# Altium integrated library Kondensator_DIP.IntLib: 1521 symbols (part 4 of 5)
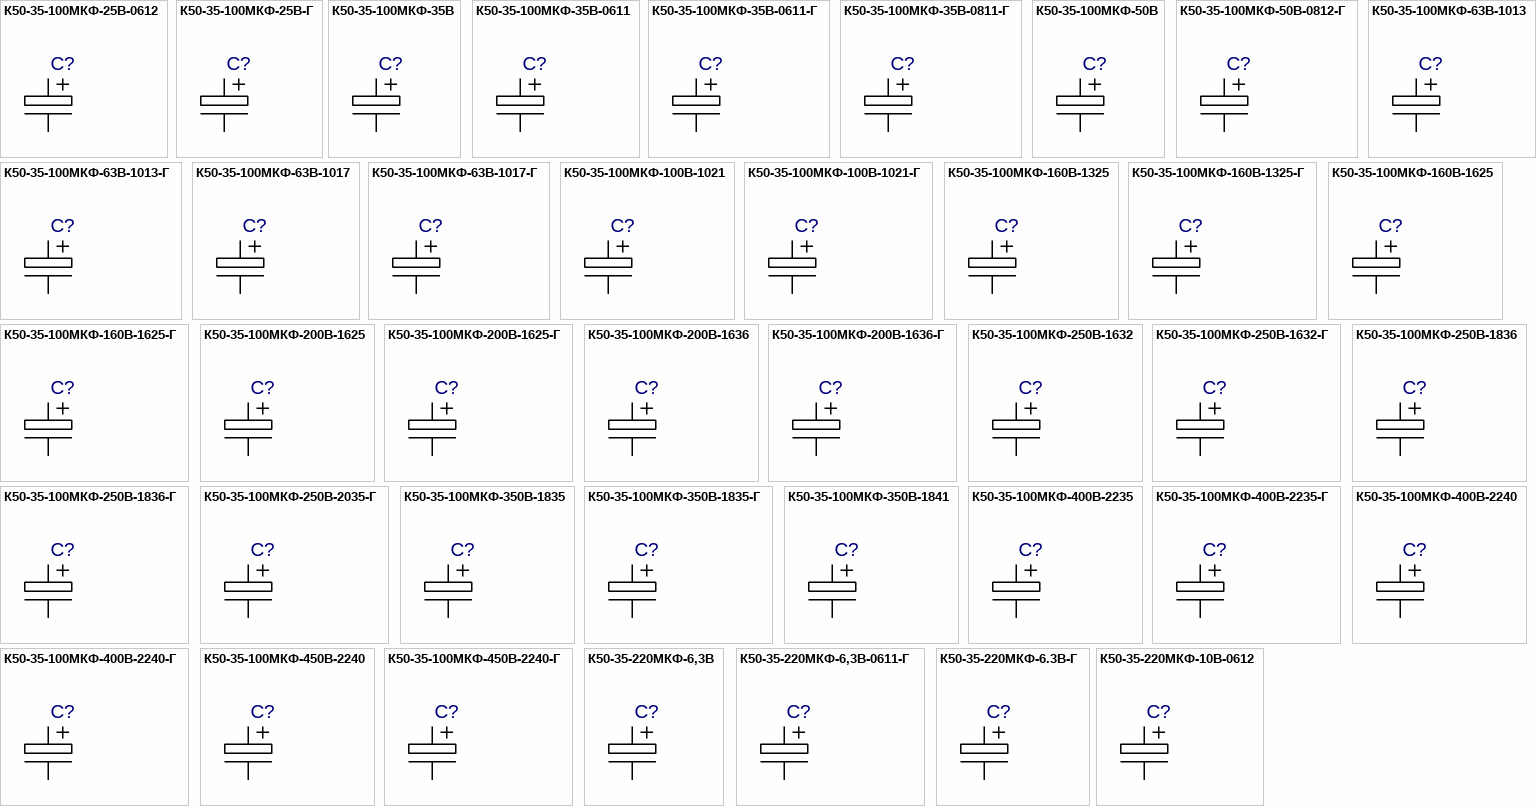
[diagram p41: symbols К50-35-100МКФ-25В-0612 to К50-35-220МКФ-10В-0612]

## К50-35-100МКФ-200В-1625-Г
designator C?  (value not drawn)
Value: *
footprint К50-35-16XX-Г_K5035-1R
footprint К50-35-16XX-Г_K5035-1R1
footprint К50-35-16XX-Г_Primary
pins: 1, 2

## К50-35-100МКФ-200В-1636
designator C?  (value not drawn)
Value: *
footprint К50-35-1625_K5035-1R
footprint К50-35-1625_K5035-1R1
footprint К50-35-1625_Primary
pins: 1, 2

## К50-35-100МКФ-200В-1636-Г
designator C?  (value not drawn)
Value: *
footprint К50-35-16XX-Г_K5035-1R
footprint К50-35-16XX-Г_K5035-1R1
footprint К50-35-16XX-Г_Primary
pins: 1, 2

## К50-35-100МКФ-250В-1632
designator C?  (value not drawn)
Value: *
footprint К50-35-1625_K5035-1R
footprint К50-35-1625_K5035-1R1
footprint К50-35-1625_Primary
pins: 1, 2

## К50-35-100МКФ-250В-1632-Г
designator C?  (value not drawn)
Value: *
footprint К50-35-16XX-Г_K5035-1R
footprint К50-35-16XX-Г_K5035-1R1
footprint К50-35-16XX-Г_Primary
pins: 1, 2

## К50-35-100МКФ-250В-1836
designator C?  (value not drawn)
Value: *
footprint К50-35-1835_K5035-1R
footprint К50-35-1835_K5035-1R1
footprint К50-35-1835_Primary
pins: 1, 2

## К50-35-100МКФ-250В-1836-Г
designator C?  (value not drawn)
Value: *
footprint К50-35-18XX-Г_K5035-1R
footprint К50-35-18XX-Г_K5035-1R1
footprint К50-35-18XX-Г_Primary
pins: 1, 2

## К50-35-100МКФ-250В-2035-Г
designator C?  (value not drawn)
Value: *
footprint К50-35-20XX-Г_K5035-1R
footprint К50-35-20XX-Г_K5035-1R1
footprint К50-35-20XX-Г_Primary
pins: 1, 2

## К50-35-100МКФ-350В-1835
designator C?  (value not drawn)
Value: *
footprint К50-35-1835_K5035-1R
footprint К50-35-1835_K5035-1R1
footprint К50-35-1835_Primary
pins: 1, 2

## К50-35-100МКФ-350В-1835-Г
designator C?  (value not drawn)
Value: *
footprint К50-35-18XX-Г_K5035-1R
footprint К50-35-18XX-Г_K5035-1R1
footprint К50-35-18XX-Г_Primary
pins: 1, 2

## К50-35-100МКФ-350В-1841
designator C?  (value not drawn)
Value: *
footprint К50-35-1835_K5035-1R
footprint К50-35-1835_K5035-1R1
footprint К50-35-1835_Primary
pins: 1, 2

## К50-35-100МКФ-400В-2235
designator C?  (value not drawn)
Value: *
footprint К50-35-2240_K5035-1R
footprint К50-35-2240_K5035-1R1
footprint К50-35-2240_Primary
pins: 1, 2

## К50-35-100МКФ-400В-2235-Г
designator C?  (value not drawn)
Value: *
footprint К50-35-22XX-Г_K5035-1R
footprint К50-35-22XX-Г_K5035-1R1
footprint К50-35-22XX-Г_Primary
pins: 1, 2

## К50-35-100МКФ-400В-2240
designator C?  (value not drawn)
Value: *
footprint К50-35-2240_K5035-1R
footprint К50-35-2240_K5035-1R1
footprint К50-35-2240_Primary
pins: 1, 2

## К50-35-100МКФ-400В-2240-Г
designator C?  (value not drawn)
Value: *
footprint К50-35-22XX-Г_K5035-1R
footprint К50-35-22XX-Г_K5035-1R1
footprint К50-35-22XX-Г_Primary
pins: 1, 2

## К50-35-100МКФ-450В-2240
designator C?  (value not drawn)
Value: *
footprint К50-35-2240_K5035-1R
footprint К50-35-2240_K5035-1R1
footprint К50-35-2240_Primary
pins: 1, 2

## К50-35-100МКФ-450В-2240-Г
designator C?  (value not drawn)
Value: *
footprint К50-35-22XX-Г_K5035-1R
footprint К50-35-22XX-Г_K5035-1R1
footprint К50-35-22XX-Г_Primary
pins: 1, 2

## К50-35-220МКФ-6,3В
designator C?  (value not drawn)
Value: *
footprint К50-35-0511_K5035-1R
footprint К50-35-0511_K5035-1R1
footprint К50-35-0511_Primary
pins: 1, 2

## К50-35-220МКФ-6,3В-0611-Г
designator C?  (value not drawn)
Value: *
footprint К50-35-0611-Г_K5035-1R
footprint К50-35-0611-Г_K5035-1R1
footprint К50-35-0611-Г_Primary
pins: 1, 2

## К50-35-220МКФ-6.3В-Г
designator C?  (value not drawn)
Value: *
footprint К50-35-0511-Г_K5035-1R
footprint К50-35-0511-Г_K5035-1R1
footprint К50-35-0511-Г_Primary
pins: 1, 2

## К50-35-220МКФ-10В-0612
designator C?  (value not drawn)
Value: *
footprint К50-35-0611_K5035-1R
footprint К50-35-0611_K5035-1R1
footprint К50-35-0611_Primary
pins: 1, 2

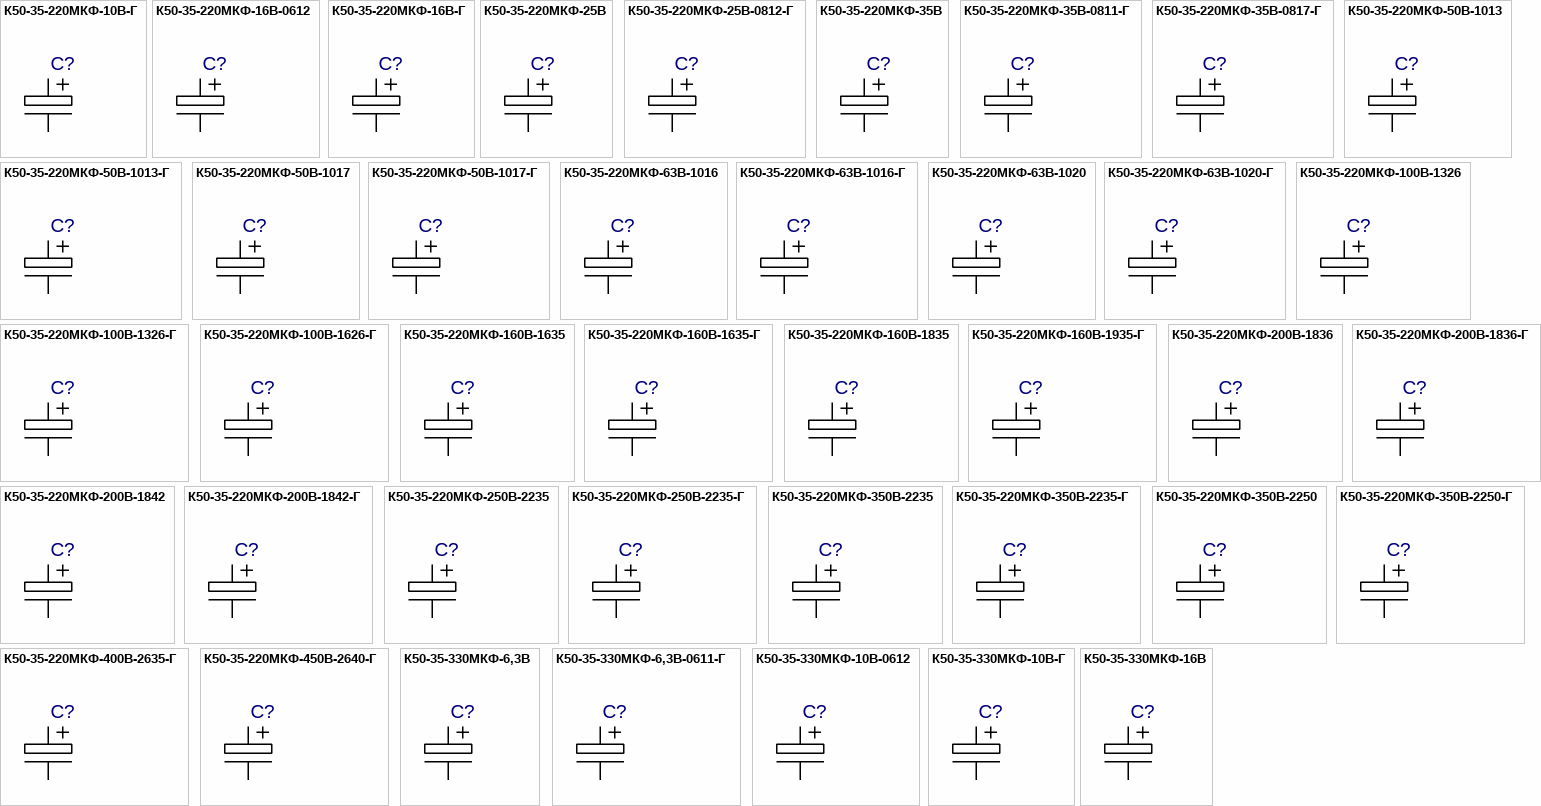
[diagram p30: symbols К50-35-220МКФ-10В-Г to К50-35-330МКФ-16В]

## К50-35-220МКФ-10В-Г
designator C?  (value not drawn)
Value: *
footprint К50-35-0611-Г_K5035-1R
footprint К50-35-0611-Г_K5035-1R1
footprint К50-35-0611-Г_Primary
pins: 1, 2

## К50-35-220МКФ-16В-0612
designator C?  (value not drawn)
Value: *
footprint К50-35-0611_K5035-1R
footprint К50-35-0611_K5035-1R1
footprint К50-35-0611_Primary
pins: 1, 2

## К50-35-220МКФ-16В-Г
designator C?  (value not drawn)
Value: *
footprint К50-35-0611-Г_K5035-1R
footprint К50-35-0611-Г_K5035-1R1
footprint К50-35-0611-Г_Primary
pins: 1, 2

## К50-35-220МКФ-25В
designator C?  (value not drawn)
Value: *
footprint R50-35-08XX_K5035-2R
footprint R50-35-08XX_K5035-2R1
footprint R50-35-08XX_Primary
pins: 1, 2

## К50-35-220МКФ-25В-0812-Г
designator C?  (value not drawn)
Value: *
footprint К50-35-08XX-Г_K5035-2R
footprint К50-35-08XX-Г_K5035-2R1
footprint К50-35-08XX-Г_Primary
pins: 1, 2

## К50-35-220МКФ-35В
designator C?  (value not drawn)
Value: *
footprint R50-35-08XX_K5035-2R
footprint R50-35-08XX_K5035-2R1
footprint R50-35-08XX_Primary
pins: 1, 2

## К50-35-220МКФ-35В-0811-Г
designator C?  (value not drawn)
Value: *
footprint К50-35-08XX-Г_K5035-2R
footprint К50-35-08XX-Г_K5035-2R1
footprint К50-35-08XX-Г_Primary
pins: 1, 2

## К50-35-220МКФ-35В-0817-Г
designator C?  (value not drawn)
Value: *
footprint К50-35-08XX-Г_K5035-2R
footprint К50-35-08XX-Г_K5035-2R1
footprint К50-35-08XX-Г_Primary
pins: 1, 2

## К50-35-220МКФ-50В-1013
designator C?  (value not drawn)
Value: *
footprint К50-35-1020_K5035-1R
footprint К50-35-1020_K5035-1R1
footprint К50-35-1020_Primary
pins: 1, 2

## К50-35-220МКФ-50В-1013-Г
designator C?  (value not drawn)
Value: *
footprint К50-35-1020-Г_K5035-1R
footprint К50-35-1020-Г_K5035-1R1
footprint К50-35-1020-Г_Primary
pins: 1, 2

## К50-35-220МКФ-50В-1017
designator C?  (value not drawn)
Value: *
footprint К50-35-1020_K5035-1R
footprint К50-35-1020_K5035-1R1
footprint К50-35-1020_Primary
pins: 1, 2

## К50-35-220МКФ-50В-1017-Г
designator C?  (value not drawn)
Value: *
footprint К50-35-1020-Г_K5035-1R
footprint К50-35-1020-Г_K5035-1R1
footprint К50-35-1020-Г_Primary
pins: 1, 2

## К50-35-220МКФ-63В-1016
designator C?  (value not drawn)
Value: *
footprint К50-35-1020_K5035-1R
footprint К50-35-1020_K5035-1R1
footprint К50-35-1020_Primary
pins: 1, 2

## К50-35-220МКФ-63В-1016-Г
designator C?  (value not drawn)
Value: *
footprint К50-35-1020-Г_K5035-1R
footprint К50-35-1020-Г_K5035-1R1
footprint К50-35-1020-Г_Primary
pins: 1, 2

## К50-35-220МКФ-63В-1020
designator C?  (value not drawn)
Value: *
footprint К50-35-1020_K5035-1R
footprint К50-35-1020_K5035-1R1
footprint К50-35-1020_Primary
pins: 1, 2

## К50-35-220МКФ-63В-1020-Г
designator C?  (value not drawn)
Value: *
footprint К50-35-1020-Г_K5035-1R
footprint К50-35-1020-Г_K5035-1R1
footprint К50-35-1020-Г_Primary
pins: 1, 2

## К50-35-220МКФ-100В-1326
designator C?  (value not drawn)
Value: *
footprint К50-35-1320_K5035-1R
footprint К50-35-1320_K5035-1R1
footprint К50-35-1320_Primary
pins: 1, 2

## К50-35-220МКФ-100В-1326-Г
designator C?  (value not drawn)
Value: *
footprint К50-35-13XX-Г_K5035-1R
footprint К50-35-13XX-Г_K5035-1R1
footprint К50-35-13XX-Г_Primary
pins: 1, 2

## К50-35-220МКФ-100В-1626-Г
designator C?  (value not drawn)
Value: *
footprint К50-35-16XX-Г_K5035-1R
footprint К50-35-16XX-Г_K5035-1R1
footprint К50-35-16XX-Г_Primary
pins: 1, 2

## К50-35-220МКФ-160В-1635
designator C?  (value not drawn)
Value: *
footprint К50-35-1625_K5035-1R
footprint К50-35-1625_K5035-1R1
footprint К50-35-1625_Primary
pins: 1, 2

## К50-35-220МКФ-160В-1635-Г
designator C?  (value not drawn)
Value: *
footprint К50-35-16XX-Г_K5035-1R
footprint К50-35-16XX-Г_K5035-1R1
footprint К50-35-16XX-Г_Primary
pins: 1, 2

## К50-35-220МКФ-160В-1835
designator C?  (value not drawn)
Value: *
footprint К50-35-1835_K5035-1R
footprint К50-35-1835_K5035-1R1
footprint К50-35-1835_Primary
pins: 1, 2

## К50-35-220МКФ-160В-1935-Г
designator C?  (value not drawn)
Value: *
footprint К50-35-18XX-Г_K5035-1R
footprint К50-35-18XX-Г_K5035-1R1
footprint К50-35-18XX-Г_Primary
pins: 1, 2

## К50-35-220МКФ-200В-1836
designator C?  (value not drawn)
Value: *
footprint К50-35-1835_K5035-1R
footprint К50-35-1835_K5035-1R1
footprint К50-35-1835_Primary
pins: 1, 2

## К50-35-220МКФ-200В-1836-Г
designator C?  (value not drawn)
Value: *
footprint К50-35-18XX-Г_K5035-1R
footprint К50-35-18XX-Г_K5035-1R1
footprint К50-35-18XX-Г_Primary
pins: 1, 2

## К50-35-220МКФ-200В-1842
designator C?  (value not drawn)
Value: *
footprint К50-35-1835_K5035-1R
footprint К50-35-1835_K5035-1R1
footprint К50-35-1835_Primary
pins: 1, 2

## К50-35-220МКФ-200В-1842-Г
designator C?  (value not drawn)
Value: *
footprint К50-35-18XX-Г_K5035-1R
footprint К50-35-18XX-Г_K5035-1R1
footprint К50-35-18XX-Г_Primary
pins: 1, 2

## К50-35-220МКФ-250В-2235
designator C?  (value not drawn)
Value: *
footprint К50-35-2240_K5035-1R
footprint К50-35-2240_K5035-1R1
footprint К50-35-2240_Primary
pins: 1, 2

## К50-35-220МКФ-250В-2235-Г
designator C?  (value not drawn)
Value: *
footprint К50-35-22XX-Г_K5035-1R
footprint К50-35-22XX-Г_K5035-1R1
footprint К50-35-22XX-Г_Primary
pins: 1, 2

## К50-35-220МКФ-350В-2235
designator C?  (value not drawn)
Value: *
footprint К50-35-2240_K5035-1R
footprint К50-35-2240_K5035-1R1
footprint К50-35-2240_Primary
pins: 1, 2

## К50-35-220МКФ-350В-2235-Г
designator C?  (value not drawn)
Value: *
footprint К50-35-22XX-Г_K5035-1R
footprint К50-35-22XX-Г_K5035-1R1
footprint К50-35-22XX-Г_Primary
pins: 1, 2

## К50-35-220МКФ-350В-2250
designator C?  (value not drawn)
Value: *
footprint К50-35-2240_K5035-1R
footprint К50-35-2240_K5035-1R1
footprint К50-35-2240_Primary
pins: 1, 2

## К50-35-220МКФ-350В-2250-Г
designator C?  (value not drawn)
Value: *
footprint К50-35-22XX-Г_K5035-1R
footprint К50-35-22XX-Г_K5035-1R1
footprint К50-35-22XX-Г_Primary
pins: 1, 2

## К50-35-220МКФ-400В-2635-Г
designator C?  (value not drawn)
Value: *
footprint К50-35-26XX-Г_K5035-1R
footprint К50-35-26XX-Г_K5035-1R1
footprint К50-35-26XX-Г_Primary
pins: 1, 2

## К50-35-220МКФ-450В-2640-Г
designator C?  (value not drawn)
Value: *
footprint К50-35-26XX-Г_K5035-1R
footprint К50-35-26XX-Г_K5035-1R1
footprint К50-35-26XX-Г_Primary
pins: 1, 2

## К50-35-330МКФ-6,3В
designator C?  (value not drawn)
Value: *
footprint К50-35-0611_K5035-1R
footprint К50-35-0611_K5035-1R1
footprint К50-35-0611_Primary
pins: 1, 2

## К50-35-330МКФ-6,3В-0611-Г
designator C?  (value not drawn)
Value: *
footprint К50-35-0611-Г_K5035-1R
footprint К50-35-0611-Г_K5035-1R1
footprint К50-35-0611-Г_Primary
pins: 1, 2

## К50-35-330МКФ-10В-0612
designator C?  (value not drawn)
Value: *
footprint К50-35-0611_K5035-1R
footprint К50-35-0611_K5035-1R1
footprint К50-35-0611_Primary
pins: 1, 2

## К50-35-330МКФ-10В-Г
designator C?  (value not drawn)
Value: *
footprint К50-35-0611-Г_K5035-1R
footprint К50-35-0611-Г_K5035-1R1
footprint К50-35-0611-Г_Primary
pins: 1, 2

## К50-35-330МКФ-16В
designator C?  (value not drawn)
Value: *
footprint R50-35-08XX_K5035-2R
footprint R50-35-08XX_K5035-2R1
footprint R50-35-08XX_Primary
pins: 1, 2

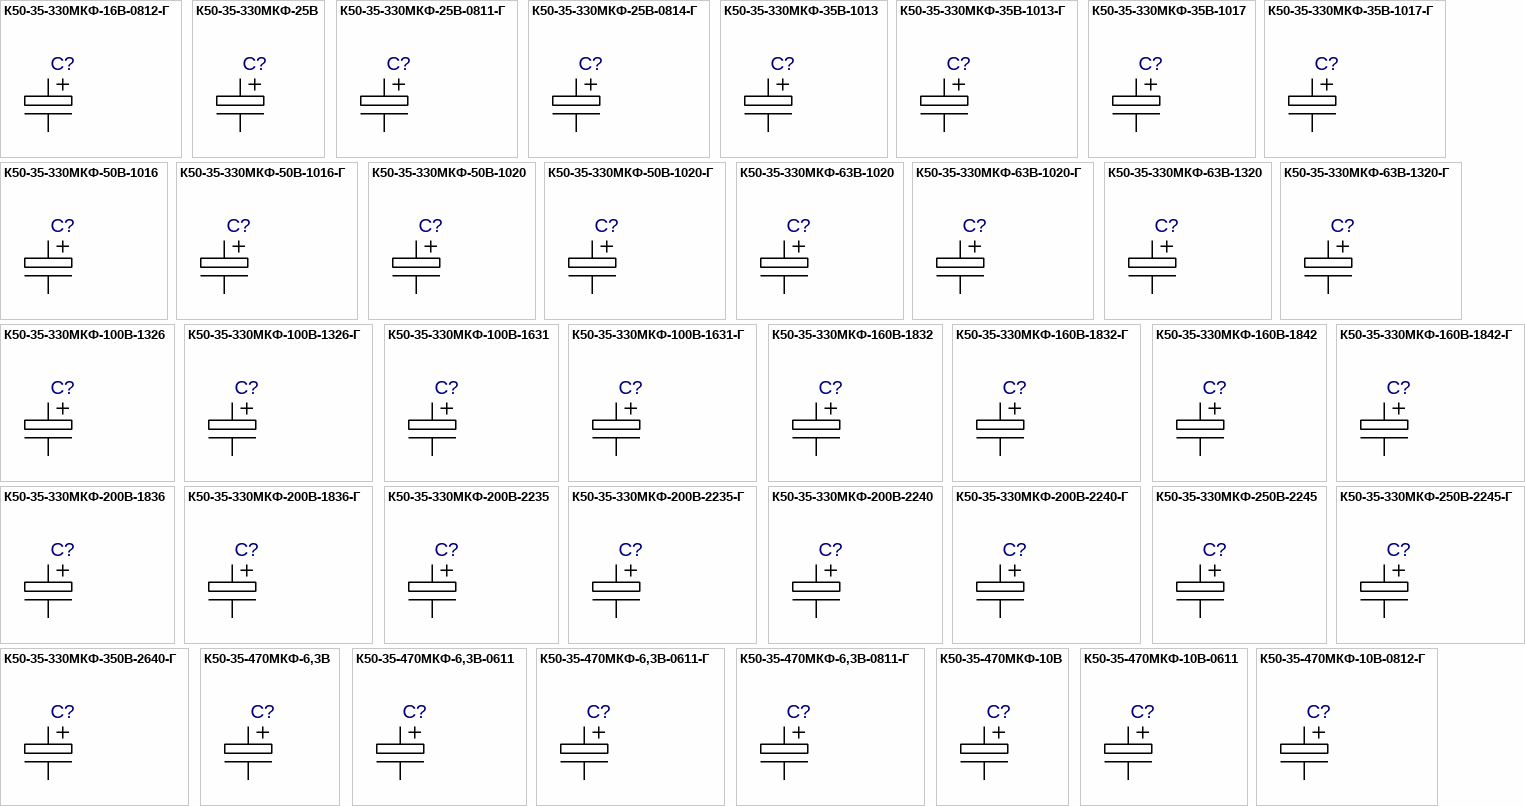
[diagram p31: symbols К50-35-330МКФ-16В-0812-Г to К50-35-470МКФ-10В-0812-Г]

## К50-35-330МКФ-16В-0812-Г
designator C?  (value not drawn)
Value: *
footprint К50-35-08XX-Г_K5035-2R
footprint К50-35-08XX-Г_K5035-2R1
footprint К50-35-08XX-Г_Primary
pins: 1, 2

## К50-35-330МКФ-25В
designator C?  (value not drawn)
Value: *
footprint R50-35-08XX_K5035-2R
footprint R50-35-08XX_K5035-2R1
footprint R50-35-08XX_Primary
pins: 1, 2

## К50-35-330МКФ-25В-0811-Г
designator C?  (value not drawn)
Value: *
footprint К50-35-08XX-Г_K5035-2R
footprint К50-35-08XX-Г_K5035-2R1
footprint К50-35-08XX-Г_Primary
pins: 1, 2

## К50-35-330МКФ-25В-0814-Г
designator C?  (value not drawn)
Value: *
footprint К50-35-08XX-Г_K5035-2R
footprint К50-35-08XX-Г_K5035-2R1
footprint К50-35-08XX-Г_Primary
pins: 1, 2

## К50-35-330МКФ-35В-1013
designator C?  (value not drawn)
Value: *
footprint К50-35-1020_K5035-1R
footprint К50-35-1020_K5035-1R1
footprint К50-35-1020_Primary
pins: 1, 2

## К50-35-330МКФ-35В-1013-Г
designator C?  (value not drawn)
Value: *
footprint К50-35-1020-Г_K5035-1R
footprint К50-35-1020-Г_K5035-1R1
footprint К50-35-1020-Г_Primary
pins: 1, 2

## К50-35-330МКФ-35В-1017
designator C?  (value not drawn)
Value: *
footprint К50-35-1020_K5035-1R
footprint К50-35-1020_K5035-1R1
footprint К50-35-1020_Primary
pins: 1, 2

## К50-35-330МКФ-35В-1017-Г
designator C?  (value not drawn)
Value: *
footprint К50-35-1020-Г_K5035-1R
footprint К50-35-1020-Г_K5035-1R1
footprint К50-35-1020-Г_Primary
pins: 1, 2

## К50-35-330МКФ-50В-1016
designator C?  (value not drawn)
Value: *
footprint К50-35-1020_K5035-1R
footprint К50-35-1020_K5035-1R1
footprint К50-35-1020_Primary
pins: 1, 2

## К50-35-330МКФ-50В-1016-Г
designator C?  (value not drawn)
Value: *
footprint К50-35-1020-Г_K5035-1R
footprint К50-35-1020-Г_K5035-1R1
footprint К50-35-1020-Г_Primary
pins: 1, 2

## К50-35-330МКФ-50В-1020
designator C?  (value not drawn)
Value: *
footprint К50-35-1020_K5035-1R
footprint К50-35-1020_K5035-1R1
footprint К50-35-1020_Primary
pins: 1, 2

## К50-35-330МКФ-50В-1020-Г
designator C?  (value not drawn)
Value: *
footprint К50-35-1020-Г_K5035-1R
footprint К50-35-1020-Г_K5035-1R1
footprint К50-35-1020-Г_Primary
pins: 1, 2

## К50-35-330МКФ-63В-1020
designator C?  (value not drawn)
Value: *
footprint К50-35-1020_K5035-1R
footprint К50-35-1020_K5035-1R1
footprint К50-35-1020_Primary
pins: 1, 2

## К50-35-330МКФ-63В-1020-Г
designator C?  (value not drawn)
Value: *
footprint К50-35-1020-Г_K5035-1R
footprint К50-35-1020-Г_K5035-1R1
footprint К50-35-1020-Г_Primary
pins: 1, 2

## К50-35-330МКФ-63В-1320
designator C?  (value not drawn)
Value: *
footprint К50-35-1320_K5035-1R
footprint К50-35-1320_K5035-1R1
footprint К50-35-1320_Primary
pins: 1, 2

## К50-35-330МКФ-63В-1320-Г
designator C?  (value not drawn)
Value: *
footprint К50-35-13XX-Г_K5035-1R
footprint К50-35-13XX-Г_K5035-1R1
footprint К50-35-13XX-Г_Primary
pins: 1, 2

## К50-35-330МКФ-100В-1326
designator C?  (value not drawn)
Value: *
footprint К50-35-1320_K5035-1R
footprint К50-35-1320_K5035-1R1
footprint К50-35-1320_Primary
pins: 1, 2

## К50-35-330МКФ-100В-1326-Г
designator C?  (value not drawn)
Value: *
footprint К50-35-13XX-Г_K5035-1R
footprint К50-35-13XX-Г_K5035-1R1
footprint К50-35-13XX-Г_Primary
pins: 1, 2

## К50-35-330МКФ-100В-1631
designator C?  (value not drawn)
Value: *
footprint К50-35-1625_K5035-1R
footprint К50-35-1625_K5035-1R1
footprint К50-35-1625_Primary
pins: 1, 2

## К50-35-330МКФ-100В-1631-Г
designator C?  (value not drawn)
Value: *
footprint К50-35-16XX-Г_K5035-1R
footprint К50-35-16XX-Г_K5035-1R1
footprint К50-35-16XX-Г_Primary
pins: 1, 2

## К50-35-330МКФ-160В-1832
designator C?  (value not drawn)
Value: *
footprint К50-35-1835_K5035-1R
footprint К50-35-1835_K5035-1R1
footprint К50-35-1835_Primary
pins: 1, 2

## К50-35-330МКФ-160В-1832-Г
designator C?  (value not drawn)
Value: *
footprint К50-35-18XX-Г_K5035-1R
footprint К50-35-18XX-Г_K5035-1R1
footprint К50-35-18XX-Г_Primary
pins: 1, 2

## К50-35-330МКФ-160В-1842
designator C?  (value not drawn)
Value: *
footprint К50-35-1835_K5035-1R
footprint К50-35-1835_K5035-1R1
footprint К50-35-1835_Primary
pins: 1, 2

## К50-35-330МКФ-160В-1842-Г
designator C?  (value not drawn)
Value: *
footprint К50-35-18XX-Г_K5035-1R
footprint К50-35-18XX-Г_K5035-1R1
footprint К50-35-18XX-Г_Primary
pins: 1, 2

## К50-35-330МКФ-200В-1836
designator C?  (value not drawn)
Value: *
footprint К50-35-1835_K5035-1R
footprint К50-35-1835_K5035-1R1
footprint К50-35-1835_Primary
pins: 1, 2

## К50-35-330МКФ-200В-1836-Г
designator C?  (value not drawn)
Value: *
footprint К50-35-18XX-Г_K5035-1R
footprint К50-35-18XX-Г_K5035-1R1
footprint К50-35-18XX-Г_Primary
pins: 1, 2

## К50-35-330МКФ-200В-2235
designator C?  (value not drawn)
Value: *
footprint К50-35-2240_K5035-1R
footprint К50-35-2240_K5035-1R1
footprint К50-35-2240_Primary
pins: 1, 2

## К50-35-330МКФ-200В-2235-Г
designator C?  (value not drawn)
Value: *
footprint К50-35-22XX-Г_K5035-1R
footprint К50-35-22XX-Г_K5035-1R1
footprint К50-35-22XX-Г_Primary
pins: 1, 2

## К50-35-330МКФ-200В-2240
designator C?  (value not drawn)
Value: *
footprint К50-35-2240_K5035-1R
footprint К50-35-2240_K5035-1R1
footprint К50-35-2240_Primary
pins: 1, 2

## К50-35-330МКФ-200В-2240-Г
designator C?  (value not drawn)
Value: *
footprint К50-35-22XX-Г_K5035-1R
footprint К50-35-22XX-Г_K5035-1R1
footprint К50-35-22XX-Г_Primary
pins: 1, 2

## К50-35-330МКФ-250В-2245
designator C?  (value not drawn)
Value: *
footprint К50-35-2240_K5035-1R
footprint К50-35-2240_K5035-1R1
footprint К50-35-2240_Primary
pins: 1, 2

## К50-35-330МКФ-250В-2245-Г
designator C?  (value not drawn)
Value: *
footprint К50-35-22XX-Г_K5035-1R
footprint К50-35-22XX-Г_K5035-1R1
footprint К50-35-22XX-Г_Primary
pins: 1, 2

## К50-35-330МКФ-350В-2640-Г
designator C?  (value not drawn)
Value: *
footprint К50-35-26XX-Г_K5035-1R
footprint К50-35-26XX-Г_K5035-1R1
footprint К50-35-26XX-Г_Primary
pins: 1, 2

## К50-35-470МКФ-6,3В
designator C?  (value not drawn)
Value: *
footprint R50-35-08XX_K5035-2R
footprint R50-35-08XX_K5035-2R1
footprint R50-35-08XX_Primary
pins: 1, 2

## К50-35-470МКФ-6,3В-0611
designator C?  (value not drawn)
Value: *
footprint К50-35-0611_K5035-1R
footprint К50-35-0611_K5035-1R1
footprint К50-35-0611_Primary
pins: 1, 2

## К50-35-470МКФ-6,3В-0611-Г
designator C?  (value not drawn)
Value: *
footprint К50-35-0611-Г_K5035-1R
footprint К50-35-0611-Г_K5035-1R1
footprint К50-35-0611-Г_Primary
pins: 1, 2

## К50-35-470МКФ-6,3В-0811-Г
designator C?  (value not drawn)
Value: *
footprint К50-35-08XX-Г_K5035-2R
footprint К50-35-08XX-Г_K5035-2R1
footprint К50-35-08XX-Г_Primary
pins: 1, 2

## К50-35-470МКФ-10В
designator C?  (value not drawn)
Value: *
footprint R50-35-08XX_K5035-2R
footprint R50-35-08XX_K5035-2R1
footprint R50-35-08XX_Primary
pins: 1, 2

## К50-35-470МКФ-10В-0611
designator C?  (value not drawn)
Value: *
footprint К50-35-0611_K5035-1R
footprint К50-35-0611_K5035-1R1
footprint К50-35-0611_Primary
pins: 1, 2

## К50-35-470МКФ-10В-0812-Г
designator C?  (value not drawn)
Value: *
footprint К50-35-08XX-Г_K5035-2R
footprint К50-35-08XX-Г_K5035-2R1
footprint К50-35-08XX-Г_Primary
pins: 1, 2

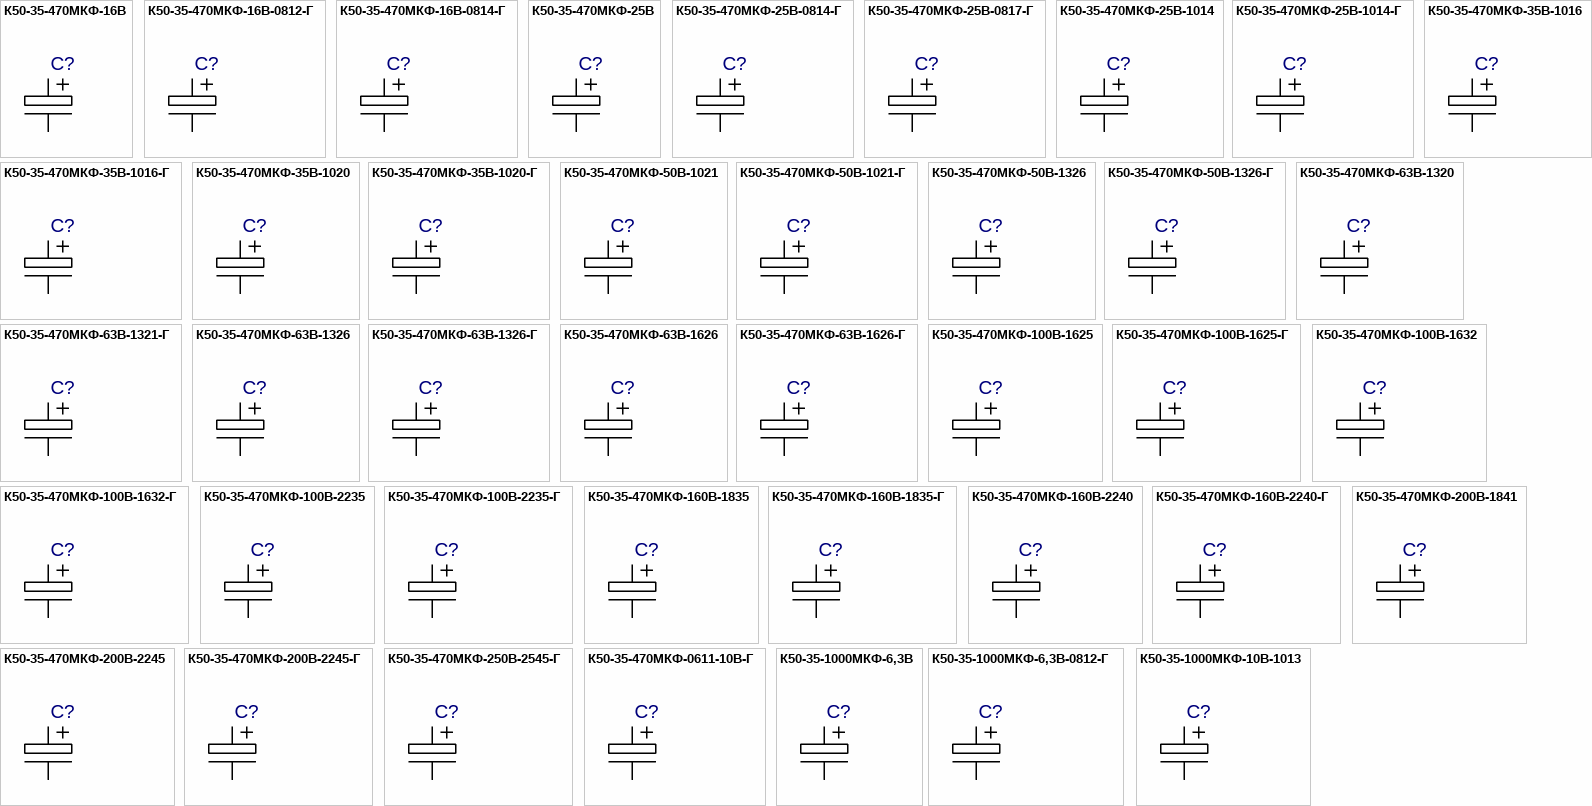
[diagram p32: symbols К50-35-470МКФ-16В to К50-35-1000МКФ-10В-1013]

## К50-35-470МКФ-16В
designator C?  (value not drawn)
Value: *
footprint R50-35-08XX_K5035-2R
footprint R50-35-08XX_K5035-2R1
footprint R50-35-08XX_Primary
pins: 1, 2

## К50-35-470МКФ-16В-0812-Г
designator C?  (value not drawn)
Value: *
footprint К50-35-08XX-Г_K5035-2R
footprint К50-35-08XX-Г_K5035-2R1
footprint К50-35-08XX-Г_Primary
pins: 1, 2

## К50-35-470МКФ-16В-0814-Г
designator C?  (value not drawn)
Value: *
footprint К50-35-08XX-Г_K5035-2R
footprint К50-35-08XX-Г_K5035-2R1
footprint К50-35-08XX-Г_Primary
pins: 1, 2

## К50-35-470МКФ-25В
designator C?  (value not drawn)
Value: *
footprint R50-35-08XX_K5035-2R
footprint R50-35-08XX_K5035-2R1
footprint R50-35-08XX_Primary
pins: 1, 2

## К50-35-470МКФ-25В-0814-Г
designator C?  (value not drawn)
Value: *
footprint К50-35-08XX-Г_K5035-2R
footprint К50-35-08XX-Г_K5035-2R1
footprint К50-35-08XX-Г_Primary
pins: 1, 2

## К50-35-470МКФ-25В-0817-Г
designator C?  (value not drawn)
Value: *
footprint К50-35-08XX-Г_K5035-2R
footprint К50-35-08XX-Г_K5035-2R1
footprint К50-35-08XX-Г_Primary
pins: 1, 2

## К50-35-470МКФ-25В-1014
designator C?  (value not drawn)
Value: *
footprint К50-35-1020_K5035-1R
footprint К50-35-1020_K5035-1R1
footprint К50-35-1020_Primary
pins: 1, 2

## К50-35-470МКФ-25В-1014-Г
designator C?  (value not drawn)
Value: *
footprint К50-35-1020-Г_K5035-1R
footprint К50-35-1020-Г_K5035-1R1
footprint К50-35-1020-Г_Primary
pins: 1, 2

## К50-35-470МКФ-35В-1016
designator C?  (value not drawn)
Value: *
footprint К50-35-1020_K5035-1R
footprint К50-35-1020_K5035-1R1
footprint К50-35-1020_Primary
pins: 1, 2

## К50-35-470МКФ-35В-1016-Г
designator C?  (value not drawn)
Value: *
footprint К50-35-1020-Г_K5035-1R
footprint К50-35-1020-Г_K5035-1R1
footprint К50-35-1020-Г_Primary
pins: 1, 2

## К50-35-470МКФ-35В-1020
designator C?  (value not drawn)
Value: *
footprint К50-35-1020_K5035-1R
footprint К50-35-1020_K5035-1R1
footprint К50-35-1020_Primary
pins: 1, 2

## К50-35-470МКФ-35В-1020-Г
designator C?  (value not drawn)
Value: *
footprint К50-35-1020-Г_K5035-1R
footprint К50-35-1020-Г_K5035-1R1
footprint К50-35-1020-Г_Primary
pins: 1, 2

## К50-35-470МКФ-50В-1021
designator C?  (value not drawn)
Value: *
footprint К50-35-1020_K5035-1R
footprint К50-35-1020_K5035-1R1
footprint К50-35-1020_Primary
pins: 1, 2

## К50-35-470МКФ-50В-1021-Г
designator C?  (value not drawn)
Value: *
footprint К50-35-1020-Г_K5035-1R
footprint К50-35-1020-Г_K5035-1R1
footprint К50-35-1020-Г_Primary
pins: 1, 2

## К50-35-470МКФ-50В-1326
designator C?  (value not drawn)
Value: *
footprint К50-35-1320_K5035-1R
footprint К50-35-1320_K5035-1R1
footprint К50-35-1320_Primary
pins: 1, 2

## К50-35-470МКФ-50В-1326-Г
designator C?  (value not drawn)
Value: *
footprint К50-35-13XX-Г_K5035-1R
footprint К50-35-13XX-Г_K5035-1R1
footprint К50-35-13XX-Г_Primary
pins: 1, 2

## К50-35-470МКФ-63В-1320
designator C?  (value not drawn)
Value: *
footprint К50-35-1320_K5035-1R
footprint К50-35-1320_K5035-1R1
footprint К50-35-1320_Primary
pins: 1, 2

## К50-35-470МКФ-63В-1321-Г
designator C?  (value not drawn)
Value: *
footprint К50-35-13XX-Г_K5035-1R
footprint К50-35-13XX-Г_K5035-1R1
footprint К50-35-13XX-Г_Primary
pins: 1, 2

## К50-35-470МКФ-63В-1326
designator C?  (value not drawn)
Value: *
footprint К50-35-1320_K5035-1R
footprint К50-35-1320_K5035-1R1
footprint К50-35-1320_Primary
pins: 1, 2

## К50-35-470МКФ-63В-1326-Г
designator C?  (value not drawn)
Value: *
footprint К50-35-13XX-Г_K5035-1R
footprint К50-35-13XX-Г_K5035-1R1
footprint К50-35-13XX-Г_Primary
pins: 1, 2

## К50-35-470МКФ-63В-1626
designator C?  (value not drawn)
Value: *
footprint К50-35-1625_K5035-1R
footprint К50-35-1625_K5035-1R1
footprint К50-35-1625_Primary
pins: 1, 2

## К50-35-470МКФ-63В-1626-Г
designator C?  (value not drawn)
Value: *
footprint К50-35-16XX-Г_K5035-1R
footprint К50-35-16XX-Г_K5035-1R1
footprint К50-35-16XX-Г_Primary
pins: 1, 2

## К50-35-470МКФ-100В-1625
designator C?  (value not drawn)
Value: *
footprint К50-35-1625_K5035-1R
footprint К50-35-1625_K5035-1R1
footprint К50-35-1625_Primary
pins: 1, 2

## К50-35-470МКФ-100В-1625-Г
designator C?  (value not drawn)
Value: *
footprint К50-35-16XX-Г_K5035-1R
footprint К50-35-16XX-Г_K5035-1R1
footprint К50-35-16XX-Г_Primary
pins: 1, 2

## К50-35-470МКФ-100В-1632
designator C?  (value not drawn)
Value: *
footprint К50-35-1625_K5035-1R
footprint К50-35-1625_K5035-1R1
footprint К50-35-1625_Primary
pins: 1, 2

## К50-35-470МКФ-100В-1632-Г
designator C?  (value not drawn)
Value: *
footprint К50-35-16XX-Г_K5035-1R
footprint К50-35-16XX-Г_K5035-1R1
footprint К50-35-16XX-Г_Primary
pins: 1, 2

## К50-35-470МКФ-100В-2235
designator C?  (value not drawn)
Value: *
footprint К50-35-2240_K5035-1R
footprint К50-35-2240_K5035-1R1
footprint К50-35-2240_Primary
pins: 1, 2

## К50-35-470МКФ-100В-2235-Г
designator C?  (value not drawn)
Value: *
footprint К50-35-22XX-Г_K5035-1R
footprint К50-35-22XX-Г_K5035-1R1
footprint К50-35-22XX-Г_Primary
pins: 1, 2

## К50-35-470МКФ-160В-1835
designator C?  (value not drawn)
Value: *
footprint К50-35-1835_K5035-1R
footprint К50-35-1835_K5035-1R1
footprint К50-35-1835_Primary
pins: 1, 2

## К50-35-470МКФ-160В-1835-Г
designator C?  (value not drawn)
Value: *
footprint К50-35-18XX-Г_K5035-1R
footprint К50-35-18XX-Г_K5035-1R1
footprint К50-35-18XX-Г_Primary
pins: 1, 2

## К50-35-470МКФ-160В-2240
designator C?  (value not drawn)
Value: *
footprint К50-35-2240_K5035-1R
footprint К50-35-2240_K5035-1R1
footprint К50-35-2240_Primary
pins: 1, 2

## К50-35-470МКФ-160В-2240-Г
designator C?  (value not drawn)
Value: *
footprint К50-35-22XX-Г_K5035-1R
footprint К50-35-22XX-Г_K5035-1R1
footprint К50-35-22XX-Г_Primary
pins: 1, 2

## К50-35-470МКФ-200В-1841
designator C?  (value not drawn)
Value: *
footprint К50-35-1835_K5035-1R
footprint К50-35-1835_K5035-1R1
footprint К50-35-1835_Primary
pins: 1, 2

## К50-35-470МКФ-200В-2245
designator C?  (value not drawn)
Value: *
footprint К50-35-2240_K5035-1R
footprint К50-35-2240_K5035-1R1
footprint К50-35-2240_Primary
pins: 1, 2

## К50-35-470МКФ-200В-2245-Г
designator C?  (value not drawn)
Value: *
footprint К50-35-22XX-Г_K5035-1R
footprint К50-35-22XX-Г_K5035-1R1
footprint К50-35-22XX-Г_Primary
pins: 1, 2

## К50-35-470МКФ-250В-2545-Г
designator C?  (value not drawn)
Value: *
footprint К50-35-25XX-Г_K5035-1R
footprint К50-35-25XX-Г_K5035-1R1
footprint К50-35-25XX-Г_Primary
pins: 1, 2

## К50-35-470МКФ-0611-10В-Г
designator C?  (value not drawn)
Value: *
footprint К50-35-0611-Г_K5035-1R
footprint К50-35-0611-Г_K5035-1R1
footprint К50-35-0611-Г_Primary
pins: 1, 2

## К50-35-1000МКФ-6,3В
designator C?  (value not drawn)
Value: *
footprint R50-35-08XX_K5035-2R
footprint R50-35-08XX_K5035-2R1
footprint R50-35-08XX_Primary
pins: 1, 2

## К50-35-1000МКФ-6,3В-0812-Г
designator C?  (value not drawn)
Value: *
footprint К50-35-08XX-Г_K5035-2R
footprint К50-35-08XX-Г_K5035-2R1
footprint К50-35-08XX-Г_Primary
pins: 1, 2

## К50-35-1000МКФ-10В-1013
designator C?  (value not drawn)
Value: *
footprint К50-35-1020_K5035-1R
footprint К50-35-1020_K5035-1R1
footprint К50-35-1020_Primary
pins: 1, 2

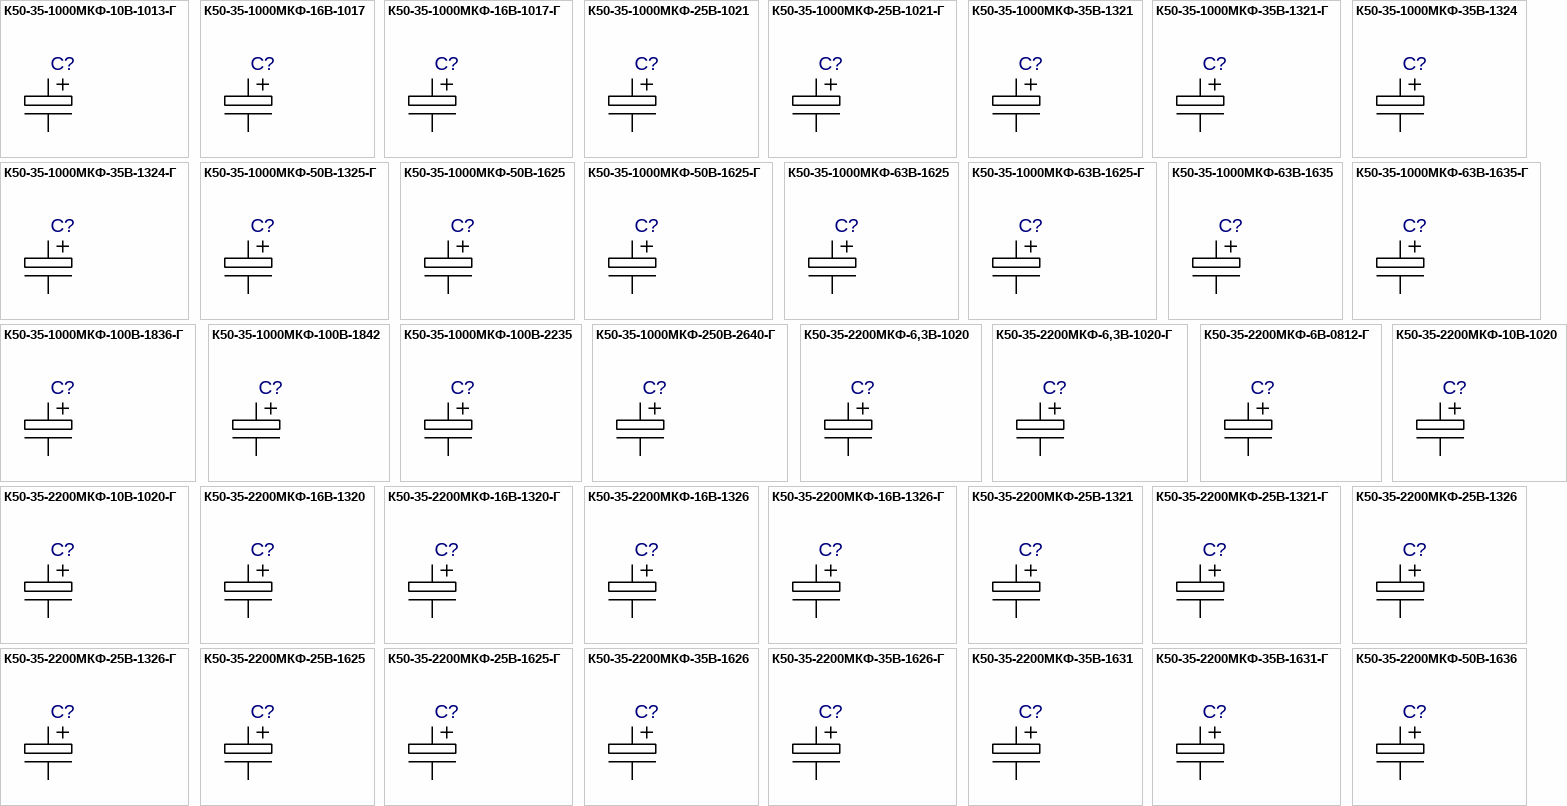
[diagram p33: symbols К50-35-1000МКФ-10В-1013-Г to К50-35-2200МКФ-50В-1636]

## К50-35-1000МКФ-10В-1013-Г
designator C?  (value not drawn)
Value: *
footprint К50-35-1020-Г_K5035-1R
footprint К50-35-1020-Г_K5035-1R1
footprint К50-35-1020-Г_Primary
pins: 1, 2

## К50-35-1000МКФ-16В-1017
designator C?  (value not drawn)
Value: *
footprint К50-35-1020_K5035-1R
footprint К50-35-1020_K5035-1R1
footprint К50-35-1020_Primary
pins: 1, 2

## К50-35-1000МКФ-16В-1017-Г
designator C?  (value not drawn)
Value: *
footprint К50-35-1020-Г_K5035-1R
footprint К50-35-1020-Г_K5035-1R1
footprint К50-35-1020-Г_Primary
pins: 1, 2

## К50-35-1000МКФ-25В-1021
designator C?  (value not drawn)
Value: *
footprint К50-35-1020_K5035-1R
footprint К50-35-1020_K5035-1R1
footprint К50-35-1020_Primary
pins: 1, 2

## К50-35-1000МКФ-25В-1021-Г
designator C?  (value not drawn)
Value: *
footprint К50-35-1020-Г_K5035-1R
footprint К50-35-1020-Г_K5035-1R1
footprint К50-35-1020-Г_Primary
pins: 1, 2

## К50-35-1000МКФ-35В-1321
designator C?  (value not drawn)
Value: *
footprint К50-35-1320_K5035-1R
footprint К50-35-1320_K5035-1R1
footprint К50-35-1320_Primary
pins: 1, 2

## К50-35-1000МКФ-35В-1321-Г
designator C?  (value not drawn)
Value: *
footprint К50-35-13XX-Г_K5035-1R
footprint К50-35-13XX-Г_K5035-1R1
footprint К50-35-13XX-Г_Primary
pins: 1, 2

## К50-35-1000МКФ-35В-1324
designator C?  (value not drawn)
Value: *
footprint К50-35-1320_K5035-1R
footprint К50-35-1320_K5035-1R1
footprint К50-35-1320_Primary
pins: 1, 2

## К50-35-1000МКФ-35В-1324-Г
designator C?  (value not drawn)
Value: *
footprint К50-35-13XX-Г_K5035-1R
footprint К50-35-13XX-Г_K5035-1R1
footprint К50-35-13XX-Г_Primary
pins: 1, 2

## К50-35-1000МКФ-50В-1325-Г
designator C?  (value not drawn)
Value: *
footprint К50-35-13XX-Г_K5035-1R
footprint К50-35-13XX-Г_K5035-1R1
footprint К50-35-13XX-Г_Primary
pins: 1, 2

## К50-35-1000МКФ-50В-1625
designator C?  (value not drawn)
Value: *
footprint К50-35-1625_K5035-1R
footprint К50-35-1625_K5035-1R1
footprint К50-35-1625_Primary
pins: 1, 2

## К50-35-1000МКФ-50В-1625-Г
designator C?  (value not drawn)
Value: *
footprint К50-35-16XX-Г_K5035-1R
footprint К50-35-16XX-Г_K5035-1R1
footprint К50-35-16XX-Г_Primary
pins: 1, 2

## К50-35-1000МКФ-63В-1625
designator C?  (value not drawn)
Value: *
footprint К50-35-1625_K5035-1R
footprint К50-35-1625_K5035-1R1
footprint К50-35-1625_Primary
pins: 1, 2

## К50-35-1000МКФ-63В-1625-Г
designator C?  (value not drawn)
Value: *
footprint К50-35-16XX-Г_K5035-1R
footprint К50-35-16XX-Г_K5035-1R1
footprint К50-35-16XX-Г_Primary
pins: 1, 2

## К50-35-1000МКФ-63В-1635
designator C?  (value not drawn)
Value: *
footprint К50-35-1625_K5035-1R
footprint К50-35-1625_K5035-1R1
footprint К50-35-1625_Primary
pins: 1, 2

## К50-35-1000МКФ-63В-1635-Г
designator C?  (value not drawn)
Value: *
footprint К50-35-16XX-Г_K5035-1R
footprint К50-35-16XX-Г_K5035-1R1
footprint К50-35-16XX-Г_Primary
pins: 1, 2

## К50-35-1000МКФ-100В-1836-Г
designator C?  (value not drawn)
Value: *
footprint К50-35-18XX-Г_K5035-1R
footprint К50-35-18XX-Г_K5035-1R1
footprint К50-35-18XX-Г_Primary
pins: 1, 2

## К50-35-1000МКФ-100В-1842
designator C?  (value not drawn)
Value: *
footprint К50-35-1835_K5035-1R
footprint К50-35-1835_K5035-1R1
footprint К50-35-1835_Primary
pins: 1, 2

## К50-35-1000МКФ-100В-2235
designator C?  (value not drawn)
Value: *
footprint К50-35-2240_K5035-1R
footprint К50-35-2240_K5035-1R1
footprint К50-35-2240_Primary
pins: 1, 2

## К50-35-1000МКФ-250В-2640-Г
designator C?  (value not drawn)
Value: *
footprint К50-35-26XX-Г_K5035-1R
footprint К50-35-26XX-Г_K5035-1R1
footprint К50-35-26XX-Г_Primary
pins: 1, 2

## К50-35-2200МКФ-6,3В-1020
designator C?  (value not drawn)
Value: *
footprint К50-35-1020_K5035-1R
footprint К50-35-1020_K5035-1R1
footprint К50-35-1020_Primary
pins: 1, 2

## К50-35-2200МКФ-6,3В-1020-Г
designator C?  (value not drawn)
Value: *
footprint К50-35-1020-Г_K5035-1R
footprint К50-35-1020-Г_K5035-1R1
footprint К50-35-1020-Г_Primary
pins: 1, 2

## К50-35-2200МКФ-6В-0812-Г
designator C?  (value not drawn)
Value: *
footprint К50-35-1020-Г_K5035-1R
footprint К50-35-1020-Г_K5035-1R1
footprint К50-35-1020-Г_Primary
pins: 1, 2

## К50-35-2200МКФ-10В-1020
designator C?  (value not drawn)
Value: *
footprint К50-35-1020_K5035-1R
footprint К50-35-1020_K5035-1R1
footprint К50-35-1020_Primary
pins: 1, 2

## К50-35-2200МКФ-10В-1020-Г
designator C?  (value not drawn)
Value: *
footprint К50-35-1020-Г_K5035-1R
footprint К50-35-1020-Г_K5035-1R1
footprint К50-35-1020-Г_Primary
pins: 1, 2

## К50-35-2200МКФ-16В-1320
designator C?  (value not drawn)
Value: *
footprint К50-35-1320_K5035-1R
footprint К50-35-1320_K5035-1R1
footprint К50-35-1320_Primary
pins: 1, 2

## К50-35-2200МКФ-16В-1320-Г
designator C?  (value not drawn)
Value: *
footprint К50-35-13XX-Г_K5035-1R
footprint К50-35-13XX-Г_K5035-1R1
footprint К50-35-13XX-Г_Primary
pins: 1, 2

## К50-35-2200МКФ-16В-1326
designator C?  (value not drawn)
Value: *
footprint К50-35-1320_K5035-1R
footprint К50-35-1320_K5035-1R1
footprint К50-35-1320_Primary
pins: 1, 2

## К50-35-2200МКФ-16В-1326-Г
designator C?  (value not drawn)
Value: *
footprint К50-35-13XX-Г_K5035-1R
footprint К50-35-13XX-Г_K5035-1R1
footprint К50-35-13XX-Г_Primary
pins: 1, 2

## К50-35-2200МКФ-25В-1321
designator C?  (value not drawn)
Value: *
footprint К50-35-1320_K5035-1R
footprint К50-35-1320_K5035-1R1
footprint К50-35-1320_Primary
pins: 1, 2

## К50-35-2200МКФ-25В-1321-Г
designator C?  (value not drawn)
Value: *
footprint К50-35-13XX-Г_K5035-1R
footprint К50-35-13XX-Г_K5035-1R1
footprint К50-35-13XX-Г_Primary
pins: 1, 2

## К50-35-2200МКФ-25В-1326
designator C?  (value not drawn)
Value: *
footprint К50-35-1320_K5035-1R
footprint К50-35-1320_K5035-1R1
footprint К50-35-1320_Primary
pins: 1, 2

## К50-35-2200МКФ-25В-1326-Г
designator C?  (value not drawn)
Value: *
footprint К50-35-13XX-Г_K5035-1R
footprint К50-35-13XX-Г_K5035-1R1
footprint К50-35-13XX-Г_Primary
pins: 1, 2

## К50-35-2200МКФ-25В-1625
designator C?  (value not drawn)
Value: *
footprint К50-35-1625_K5035-1R
footprint К50-35-1625_K5035-1R1
footprint К50-35-1625_Primary
pins: 1, 2

## К50-35-2200МКФ-25В-1625-Г
designator C?  (value not drawn)
Value: *
footprint К50-35-16XX-Г_K5035-1R
footprint К50-35-16XX-Г_K5035-1R1
footprint К50-35-16XX-Г_Primary
pins: 1, 2

## К50-35-2200МКФ-35В-1626
designator C?  (value not drawn)
Value: *
footprint К50-35-1625_K5035-1R
footprint К50-35-1625_K5035-1R1
footprint К50-35-1625_Primary
pins: 1, 2

## К50-35-2200МКФ-35В-1626-Г
designator C?  (value not drawn)
Value: *
footprint К50-35-16XX-Г_K5035-1R
footprint К50-35-16XX-Г_K5035-1R1
footprint К50-35-16XX-Г_Primary
pins: 1, 2

## К50-35-2200МКФ-35В-1631
designator C?  (value not drawn)
Value: *
footprint К50-35-1625_K5035-1R
footprint К50-35-1625_K5035-1R1
footprint К50-35-1625_Primary
pins: 1, 2

## К50-35-2200МКФ-35В-1631-Г
designator C?  (value not drawn)
Value: *
footprint К50-35-16XX-Г_K5035-1R
footprint К50-35-16XX-Г_K5035-1R1
footprint К50-35-16XX-Г_Primary
pins: 1, 2

## К50-35-2200МКФ-50В-1636
designator C?  (value not drawn)
Value: *
footprint К50-35-1625_K5035-1R
footprint К50-35-1625_K5035-1R1
footprint К50-35-1625_Primary
pins: 1, 2

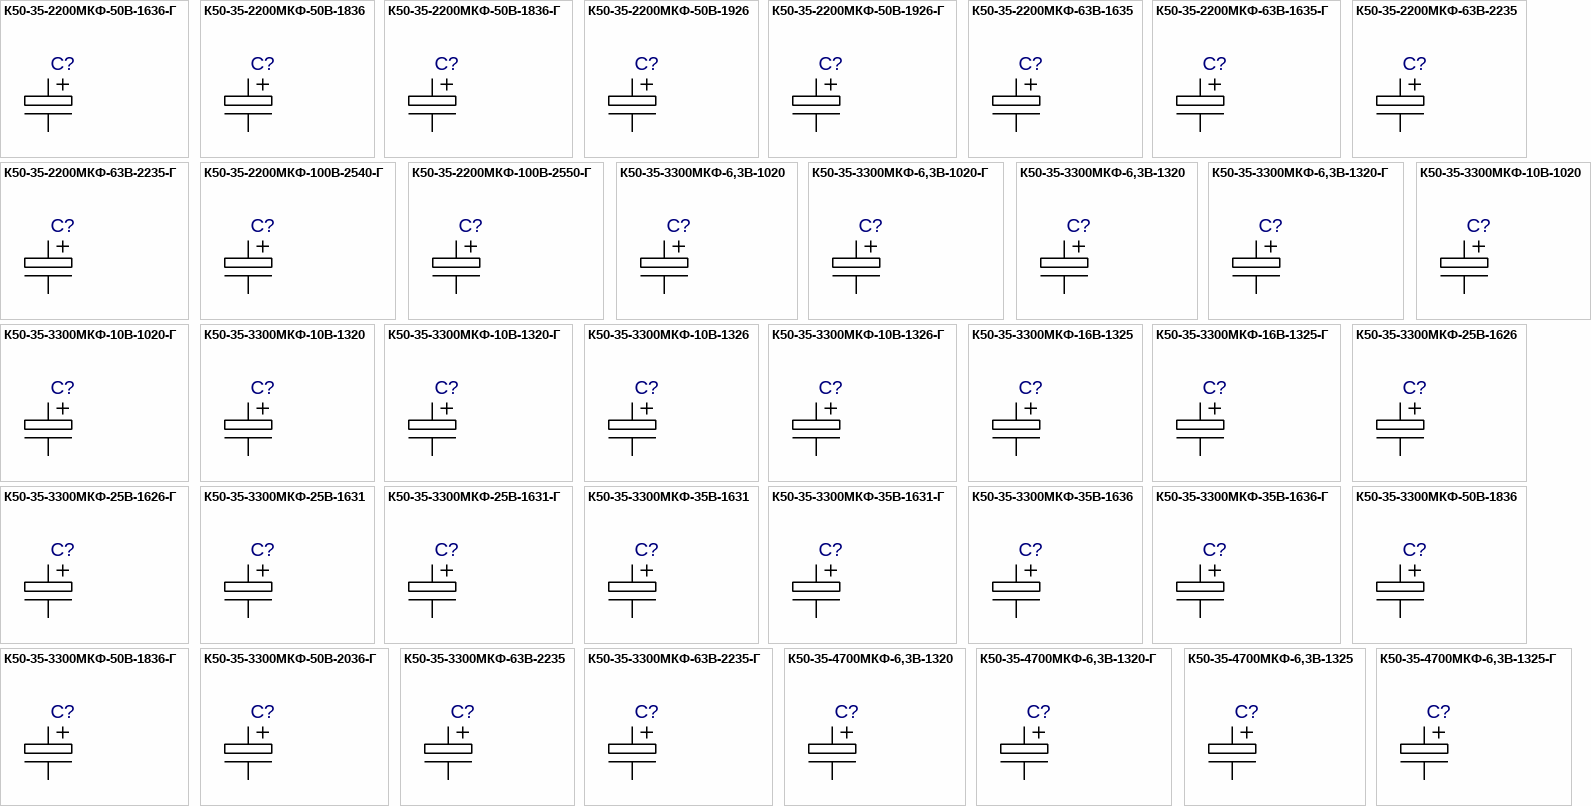
[diagram p34: symbols К50-35-2200МКФ-50В-1636-Г to К50-35-4700МКФ-6,3В-1325-Г]

## К50-35-2200МКФ-50В-1636-Г
designator C?  (value not drawn)
Value: *
footprint К50-35-16XX-Г_K5035-1R
footprint К50-35-16XX-Г_K5035-1R1
footprint К50-35-16XX-Г_Primary
pins: 1, 2

## К50-35-2200МКФ-50В-1836
designator C?  (value not drawn)
Value: *
footprint К50-35-1835_K5035-1R
footprint К50-35-1835_K5035-1R1
footprint К50-35-1835_Primary
pins: 1, 2

## К50-35-2200МКФ-50В-1836-Г
designator C?  (value not drawn)
Value: *
footprint К50-35-18XX-Г_K5035-1R
footprint К50-35-18XX-Г_K5035-1R1
footprint К50-35-18XX-Г_Primary
pins: 1, 2

## К50-35-2200МКФ-50В-1926
designator C?  (value not drawn)
Value: *
footprint К50-35-1926_K5035-1R
footprint К50-35-1926_K5035-1R1
footprint К50-35-1926_Primary
pins: 1, 2

## К50-35-2200МКФ-50В-1926-Г
designator C?  (value not drawn)
Value: *
footprint К50-35-1926-Г_K5035-1R
footprint К50-35-1926-Г_K5035-1R1
footprint К50-35-1926-Г_Primary
pins: 1, 2

## К50-35-2200МКФ-63В-1635
designator C?  (value not drawn)
Value: *
footprint К50-35-1625_K5035-1R
footprint К50-35-1625_K5035-1R1
footprint К50-35-1625_Primary
pins: 1, 2

## К50-35-2200МКФ-63В-1635-Г
designator C?  (value not drawn)
Value: *
footprint К50-35-16XX-Г_K5035-1R
footprint К50-35-16XX-Г_K5035-1R1
footprint К50-35-16XX-Г_Primary
pins: 1, 2

## К50-35-2200МКФ-63В-2235
designator C?  (value not drawn)
Value: *
footprint К50-35-2240_K5035-1R
footprint К50-35-2240_K5035-1R1
footprint К50-35-2240_Primary
pins: 1, 2

## К50-35-2200МКФ-63В-2235-Г
designator C?  (value not drawn)
Value: *
footprint К50-35-22XX-Г_K5035-1R
footprint К50-35-22XX-Г_K5035-1R1
footprint К50-35-22XX-Г_Primary
pins: 1, 2

## К50-35-2200МКФ-100В-2540-Г
designator C?  (value not drawn)
Value: *
footprint К50-35-25XX-Г_K5035-1R
footprint К50-35-25XX-Г_K5035-1R1
footprint К50-35-25XX-Г_Primary
pins: 1, 2

## К50-35-2200МКФ-100В-2550-Г
designator C?  (value not drawn)
Value: *
footprint К50-35-25XX-Г_K5035-1R
footprint К50-35-25XX-Г_K5035-1R1
footprint К50-35-25XX-Г_Primary
pins: 1, 2

## К50-35-3300МКФ-6,3В-1020
designator C?  (value not drawn)
Value: *
footprint К50-35-1020_K5035-1R
footprint К50-35-1020_K5035-1R1
footprint К50-35-1020_Primary
pins: 1, 2

## К50-35-3300МКФ-6,3В-1020-Г
designator C?  (value not drawn)
Value: *
footprint К50-35-1020-Г_K5035-1R
footprint К50-35-1020-Г_K5035-1R1
footprint К50-35-1020-Г_Primary
pins: 1, 2

## К50-35-3300МКФ-6,3В-1320
designator C?  (value not drawn)
Value: *
footprint К50-35-1320_K5035-1R
footprint К50-35-1320_K5035-1R1
footprint К50-35-1320_Primary
pins: 1, 2

## К50-35-3300МКФ-6,3В-1320-Г
designator C?  (value not drawn)
Value: *
footprint К50-35-13XX-Г_K5035-1R
footprint К50-35-13XX-Г_K5035-1R1
footprint К50-35-13XX-Г_Primary
pins: 1, 2

## К50-35-3300МКФ-10В-1020
designator C?  (value not drawn)
Value: *
footprint К50-35-1020_K5035-1R
footprint К50-35-1020_K5035-1R1
footprint К50-35-1020_Primary
pins: 1, 2

## К50-35-3300МКФ-10В-1020-Г
designator C?  (value not drawn)
Value: *
footprint К50-35-1020-Г_K5035-1R
footprint К50-35-1020-Г_K5035-1R1
footprint К50-35-1020-Г_Primary
pins: 1, 2

## К50-35-3300МКФ-10В-1320
designator C?  (value not drawn)
Value: *
footprint К50-35-1320_K5035-1R
footprint К50-35-1320_K5035-1R1
footprint К50-35-1320_Primary
pins: 1, 2

## К50-35-3300МКФ-10В-1320-Г
designator C?  (value not drawn)
Value: *
footprint К50-35-13XX-Г_K5035-1R
footprint К50-35-13XX-Г_K5035-1R1
footprint К50-35-13XX-Г_Primary
pins: 1, 2

## К50-35-3300МКФ-10В-1326
designator C?  (value not drawn)
Value: *
footprint К50-35-1320_K5035-1R
footprint К50-35-1320_K5035-1R1
footprint К50-35-1320_Primary
pins: 1, 2

## К50-35-3300МКФ-10В-1326-Г
designator C?  (value not drawn)
Value: *
footprint К50-35-13XX-Г_K5035-1R
footprint К50-35-13XX-Г_K5035-1R1
footprint К50-35-13XX-Г_Primary
pins: 1, 2

## К50-35-3300МКФ-16В-1325
designator C?  (value not drawn)
Value: *
footprint К50-35-1320_K5035-1R
footprint К50-35-1320_K5035-1R1
footprint К50-35-1320_Primary
pins: 1, 2

## К50-35-3300МКФ-16В-1325-Г
designator C?  (value not drawn)
Value: *
footprint К50-35-13XX-Г_K5035-1R
footprint К50-35-13XX-Г_K5035-1R1
footprint К50-35-13XX-Г_Primary
pins: 1, 2

## К50-35-3300МКФ-25В-1626
designator C?  (value not drawn)
Value: *
footprint К50-35-1625_K5035-1R
footprint К50-35-1625_K5035-1R1
footprint К50-35-1625_Primary
pins: 1, 2

## К50-35-3300МКФ-25В-1626-Г
designator C?  (value not drawn)
Value: *
footprint К50-35-16XX-Г_K5035-1R
footprint К50-35-16XX-Г_K5035-1R1
footprint К50-35-16XX-Г_Primary
pins: 1, 2

## К50-35-3300МКФ-25В-1631
designator C?  (value not drawn)
Value: *
footprint К50-35-1625_K5035-1R
footprint К50-35-1625_K5035-1R1
footprint К50-35-1625_Primary
pins: 1, 2

## К50-35-3300МКФ-25В-1631-Г
designator C?  (value not drawn)
Value: *
footprint К50-35-16XX-Г_K5035-1R
footprint К50-35-16XX-Г_K5035-1R1
footprint К50-35-16XX-Г_Primary
pins: 1, 2

## К50-35-3300МКФ-35В-1631
designator C?  (value not drawn)
Value: *
footprint К50-35-1625_K5035-1R
footprint К50-35-1625_K5035-1R1
footprint К50-35-1625_Primary
pins: 1, 2

## К50-35-3300МКФ-35В-1631-Г
designator C?  (value not drawn)
Value: *
footprint К50-35-16XX-Г_K5035-1R
footprint К50-35-16XX-Г_K5035-1R1
footprint К50-35-16XX-Г_Primary
pins: 1, 2

## К50-35-3300МКФ-35В-1636
designator C?  (value not drawn)
Value: *
footprint К50-35-1625_K5035-1R
footprint К50-35-1625_K5035-1R1
footprint К50-35-1625_Primary
pins: 1, 2

## К50-35-3300МКФ-35В-1636-Г
designator C?  (value not drawn)
Value: *
footprint К50-35-16XX-Г_K5035-1R
footprint К50-35-16XX-Г_K5035-1R1
footprint К50-35-16XX-Г_Primary
pins: 1, 2

## К50-35-3300МКФ-50В-1836
designator C?  (value not drawn)
Value: *
footprint К50-35-1835_K5035-1R
footprint К50-35-1835_K5035-1R1
footprint К50-35-1835_Primary
pins: 1, 2

## К50-35-3300МКФ-50В-1836-Г
designator C?  (value not drawn)
Value: *
footprint К50-35-18XX-Г_K5035-1R
footprint К50-35-18XX-Г_K5035-1R1
footprint К50-35-18XX-Г_Primary
pins: 1, 2

## К50-35-3300МКФ-50В-2036-Г
designator C?  (value not drawn)
Value: *
footprint К50-35-20XX-Г_K5035-1R
footprint К50-35-20XX-Г_K5035-1R1
footprint К50-35-20XX-Г_Primary
pins: 1, 2

## К50-35-3300МКФ-63В-2235
designator C?  (value not drawn)
Value: *
footprint К50-35-2240_K5035-1R
footprint К50-35-2240_K5035-1R1
footprint К50-35-2240_Primary
pins: 1, 2

## К50-35-3300МКФ-63В-2235-Г
designator C?  (value not drawn)
Value: *
footprint К50-35-22XX-Г_K5035-1R
footprint К50-35-22XX-Г_K5035-1R1
footprint К50-35-22XX-Г_Primary
pins: 1, 2

## К50-35-4700МКФ-6,3В-1320
designator C?  (value not drawn)
Value: *
footprint К50-35-1320_K5035-1R
footprint К50-35-1320_K5035-1R1
footprint К50-35-1320_Primary
pins: 1, 2

## К50-35-4700МКФ-6,3В-1320-Г
designator C?  (value not drawn)
Value: *
footprint К50-35-13XX-Г_K5035-1R
footprint К50-35-13XX-Г_K5035-1R1
footprint К50-35-13XX-Г_Primary
pins: 1, 2

## К50-35-4700МКФ-6,3В-1325
designator C?  (value not drawn)
Value: *
footprint К50-35-1320_K5035-1R
footprint К50-35-1320_K5035-1R1
footprint К50-35-1320_Primary
pins: 1, 2

## К50-35-4700МКФ-6,3В-1325-Г
designator C?  (value not drawn)
Value: *
footprint К50-35-13XX-Г_K5035-1R
footprint К50-35-13XX-Г_K5035-1R1
footprint К50-35-13XX-Г_Primary
pins: 1, 2

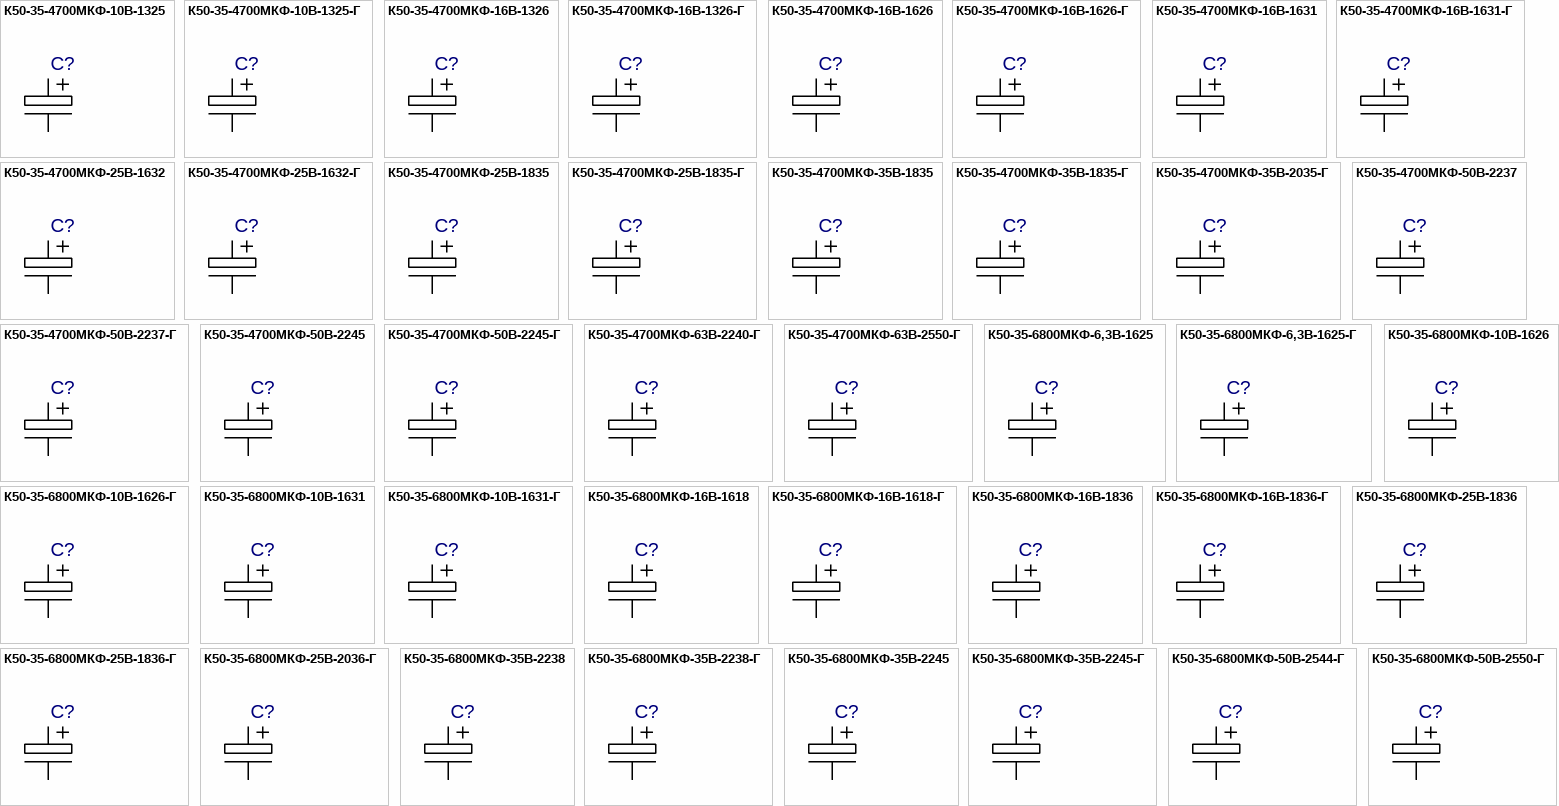
[diagram p35: symbols К50-35-4700МКФ-10В-1325 to К50-35-6800МКФ-50В-2550-Г]

## К50-35-4700МКФ-10В-1325
designator C?  (value not drawn)
Value: *
footprint К50-35-1320_K5035-1R
footprint К50-35-1320_K5035-1R1
footprint К50-35-1320_Primary
pins: 1, 2

## К50-35-4700МКФ-10В-1325-Г
designator C?  (value not drawn)
Value: *
footprint К50-35-13XX-Г_K5035-1R
footprint К50-35-13XX-Г_K5035-1R1
footprint К50-35-13XX-Г_Primary
pins: 1, 2

## К50-35-4700МКФ-16В-1326
designator C?  (value not drawn)
Value: *
footprint К50-35-1320_K5035-1R
footprint К50-35-1320_K5035-1R1
footprint К50-35-1320_Primary
pins: 1, 2

## К50-35-4700МКФ-16В-1326-Г
designator C?  (value not drawn)
Value: *
footprint К50-35-13XX-Г_K5035-1R
footprint К50-35-13XX-Г_K5035-1R1
footprint К50-35-13XX-Г_Primary
pins: 1, 2

## К50-35-4700МКФ-16В-1626
designator C?  (value not drawn)
Value: *
footprint К50-35-1625_K5035-1R
footprint К50-35-1625_K5035-1R1
footprint К50-35-1625_Primary
pins: 1, 2

## К50-35-4700МКФ-16В-1626-Г
designator C?  (value not drawn)
Value: *
footprint К50-35-16XX-Г_K5035-1R
footprint К50-35-16XX-Г_K5035-1R1
footprint К50-35-16XX-Г_Primary
pins: 1, 2

## К50-35-4700МКФ-16В-1631
designator C?  (value not drawn)
Value: *
footprint К50-35-1625_K5035-1R
footprint К50-35-1625_K5035-1R1
footprint К50-35-1625_Primary
pins: 1, 2

## К50-35-4700МКФ-16В-1631-Г
designator C?  (value not drawn)
Value: *
footprint К50-35-16XX-Г_K5035-1R
footprint К50-35-16XX-Г_K5035-1R1
footprint К50-35-16XX-Г_Primary
pins: 1, 2

## К50-35-4700МКФ-25В-1632
designator C?  (value not drawn)
Value: *
footprint К50-35-1625_K5035-1R
footprint К50-35-1625_K5035-1R1
footprint К50-35-1625_Primary
pins: 1, 2

## К50-35-4700МКФ-25В-1632-Г
designator C?  (value not drawn)
Value: *
footprint К50-35-16XX-Г_K5035-1R
footprint К50-35-16XX-Г_K5035-1R1
footprint К50-35-16XX-Г_Primary
pins: 1, 2

## К50-35-4700МКФ-25В-1835
designator C?  (value not drawn)
Value: *
footprint К50-35-1835_K5035-1R
footprint К50-35-1835_K5035-1R1
footprint К50-35-1835_Primary
pins: 1, 2

## К50-35-4700МКФ-25В-1835-Г
designator C?  (value not drawn)
Value: *
footprint К50-35-18XX-Г_K5035-1R
footprint К50-35-18XX-Г_K5035-1R1
footprint К50-35-18XX-Г_Primary
pins: 1, 2

## К50-35-4700МКФ-35В-1835
designator C?  (value not drawn)
Value: *
footprint К50-35-1835_K5035-1R
footprint К50-35-1835_K5035-1R1
footprint К50-35-1835_Primary
pins: 1, 2

## К50-35-4700МКФ-35В-1835-Г
designator C?  (value not drawn)
Value: *
footprint К50-35-18XX-Г_K5035-1R
footprint К50-35-18XX-Г_K5035-1R1
footprint К50-35-18XX-Г_Primary
pins: 1, 2

## К50-35-4700МКФ-35В-2035-Г
designator C?  (value not drawn)
Value: *
footprint К50-35-20XX-Г_K5035-1R
footprint К50-35-20XX-Г_K5035-1R1
footprint К50-35-20XX-Г_Primary
pins: 1, 2

## К50-35-4700МКФ-50В-2237
designator C?  (value not drawn)
Value: *
footprint К50-35-2240_K5035-1R
footprint К50-35-2240_K5035-1R1
footprint К50-35-2240_Primary
pins: 1, 2

## К50-35-4700МКФ-50В-2237-Г
designator C?  (value not drawn)
Value: *
footprint К50-35-22XX-Г_K5035-1R
footprint К50-35-22XX-Г_K5035-1R1
footprint К50-35-22XX-Г_Primary
pins: 1, 2

## К50-35-4700МКФ-50В-2245
designator C?  (value not drawn)
Value: *
footprint К50-35-2240_K5035-1R
footprint К50-35-2240_K5035-1R1
footprint К50-35-2240_Primary
pins: 1, 2

## К50-35-4700МКФ-50В-2245-Г
designator C?  (value not drawn)
Value: *
footprint К50-35-22XX-Г_K5035-1R
footprint К50-35-22XX-Г_K5035-1R1
footprint К50-35-22XX-Г_Primary
pins: 1, 2

## К50-35-4700МКФ-63В-2240-Г
designator C?  (value not drawn)
Value: *
footprint К50-35-22XX-Г_K5035-1R
footprint К50-35-22XX-Г_K5035-1R1
footprint К50-35-22XX-Г_Primary
pins: 1, 2

## К50-35-4700МКФ-63В-2550-Г
designator C?  (value not drawn)
Value: *
footprint К50-35-25XX-Г_K5035-1R
footprint К50-35-25XX-Г_K5035-1R1
footprint К50-35-25XX-Г_Primary
pins: 1, 2

## К50-35-6800МКФ-6,3В-1625
designator C?  (value not drawn)
Value: *
footprint К50-35-1625_K5035-1R
footprint К50-35-1625_K5035-1R1
footprint К50-35-1625_Primary
pins: 1, 2

## К50-35-6800МКФ-6,3В-1625-Г
designator C?  (value not drawn)
Value: *
footprint К50-35-16XX-Г_K5035-1R
footprint К50-35-16XX-Г_K5035-1R1
footprint К50-35-16XX-Г_Primary
pins: 1, 2

## К50-35-6800МКФ-10В-1626
designator C?  (value not drawn)
Value: *
footprint К50-35-1625_K5035-1R
footprint К50-35-1625_K5035-1R1
footprint К50-35-1625_Primary
pins: 1, 2

## К50-35-6800МКФ-10В-1626-Г
designator C?  (value not drawn)
Value: *
footprint К50-35-16XX-Г_K5035-1R
footprint К50-35-16XX-Г_K5035-1R1
footprint К50-35-16XX-Г_Primary
pins: 1, 2

## К50-35-6800МКФ-10В-1631
designator C?  (value not drawn)
Value: *
footprint К50-35-1625_K5035-1R
footprint К50-35-1625_K5035-1R1
footprint К50-35-1625_Primary
pins: 1, 2

## К50-35-6800МКФ-10В-1631-Г
designator C?  (value not drawn)
Value: *
footprint К50-35-16XX-Г_K5035-1R
footprint К50-35-16XX-Г_K5035-1R1
footprint К50-35-16XX-Г_Primary
pins: 1, 2

## К50-35-6800МКФ-16В-1618
designator C?  (value not drawn)
Value: *
footprint К50-35-1625_K5035-1R
footprint К50-35-1625_K5035-1R1
footprint К50-35-1625_Primary
pins: 1, 2

## К50-35-6800МКФ-16В-1618-Г
designator C?  (value not drawn)
Value: *
footprint К50-35-16XX-Г_K5035-1R
footprint К50-35-16XX-Г_K5035-1R1
footprint К50-35-16XX-Г_Primary
pins: 1, 2

## К50-35-6800МКФ-16В-1836
designator C?  (value not drawn)
Value: *
footprint К50-35-1835_K5035-1R
footprint К50-35-1835_K5035-1R1
footprint К50-35-1835_Primary
pins: 1, 2

## К50-35-6800МКФ-16В-1836-Г
designator C?  (value not drawn)
Value: *
footprint К50-35-18XX-Г_K5035-1R
footprint К50-35-18XX-Г_K5035-1R1
footprint К50-35-18XX-Г_Primary
pins: 1, 2

## К50-35-6800МКФ-25В-1836
designator C?  (value not drawn)
Value: *
footprint К50-35-1835_K5035-1R
footprint К50-35-1835_K5035-1R1
footprint К50-35-1835_Primary
pins: 1, 2

## К50-35-6800МКФ-25В-1836-Г
designator C?  (value not drawn)
Value: *
footprint К50-35-18XX-Г_K5035-1R
footprint К50-35-18XX-Г_K5035-1R1
footprint К50-35-18XX-Г_Primary
pins: 1, 2

## К50-35-6800МКФ-25В-2036-Г
designator C?  (value not drawn)
Value: *
footprint К50-35-20XX-Г_K5035-1R
footprint К50-35-20XX-Г_K5035-1R1
footprint К50-35-20XX-Г_Primary
pins: 1, 2

## К50-35-6800МКФ-35В-2238
designator C?  (value not drawn)
Value: *
footprint К50-35-2240_K5035-1R
footprint К50-35-2240_K5035-1R1
footprint К50-35-2240_Primary
pins: 1, 2

## К50-35-6800МКФ-35В-2238-Г
designator C?  (value not drawn)
Value: *
footprint К50-35-22XX-Г_K5035-1R
footprint К50-35-22XX-Г_K5035-1R1
footprint К50-35-22XX-Г_Primary
pins: 1, 2

## К50-35-6800МКФ-35В-2245
designator C?  (value not drawn)
Value: *
footprint К50-35-2240_K5035-1R
footprint К50-35-2240_K5035-1R1
footprint К50-35-2240_Primary
pins: 1, 2

## К50-35-6800МКФ-35В-2245-Г
designator C?  (value not drawn)
Value: *
footprint К50-35-22XX-Г_K5035-1R
footprint К50-35-22XX-Г_K5035-1R1
footprint К50-35-22XX-Г_Primary
pins: 1, 2

## К50-35-6800МКФ-50В-2544-Г
designator C?  (value not drawn)
Value: *
footprint К50-35-25XX-Г_K5035-1R
footprint К50-35-25XX-Г_K5035-1R1
footprint К50-35-25XX-Г_Primary
pins: 1, 2

## К50-35-6800МКФ-50В-2550-Г
designator C?  (value not drawn)
Value: *
footprint К50-35-25XX-Г_K5035-1R
footprint К50-35-25XX-Г_K5035-1R1
footprint К50-35-25XX-Г_Primary
pins: 1, 2

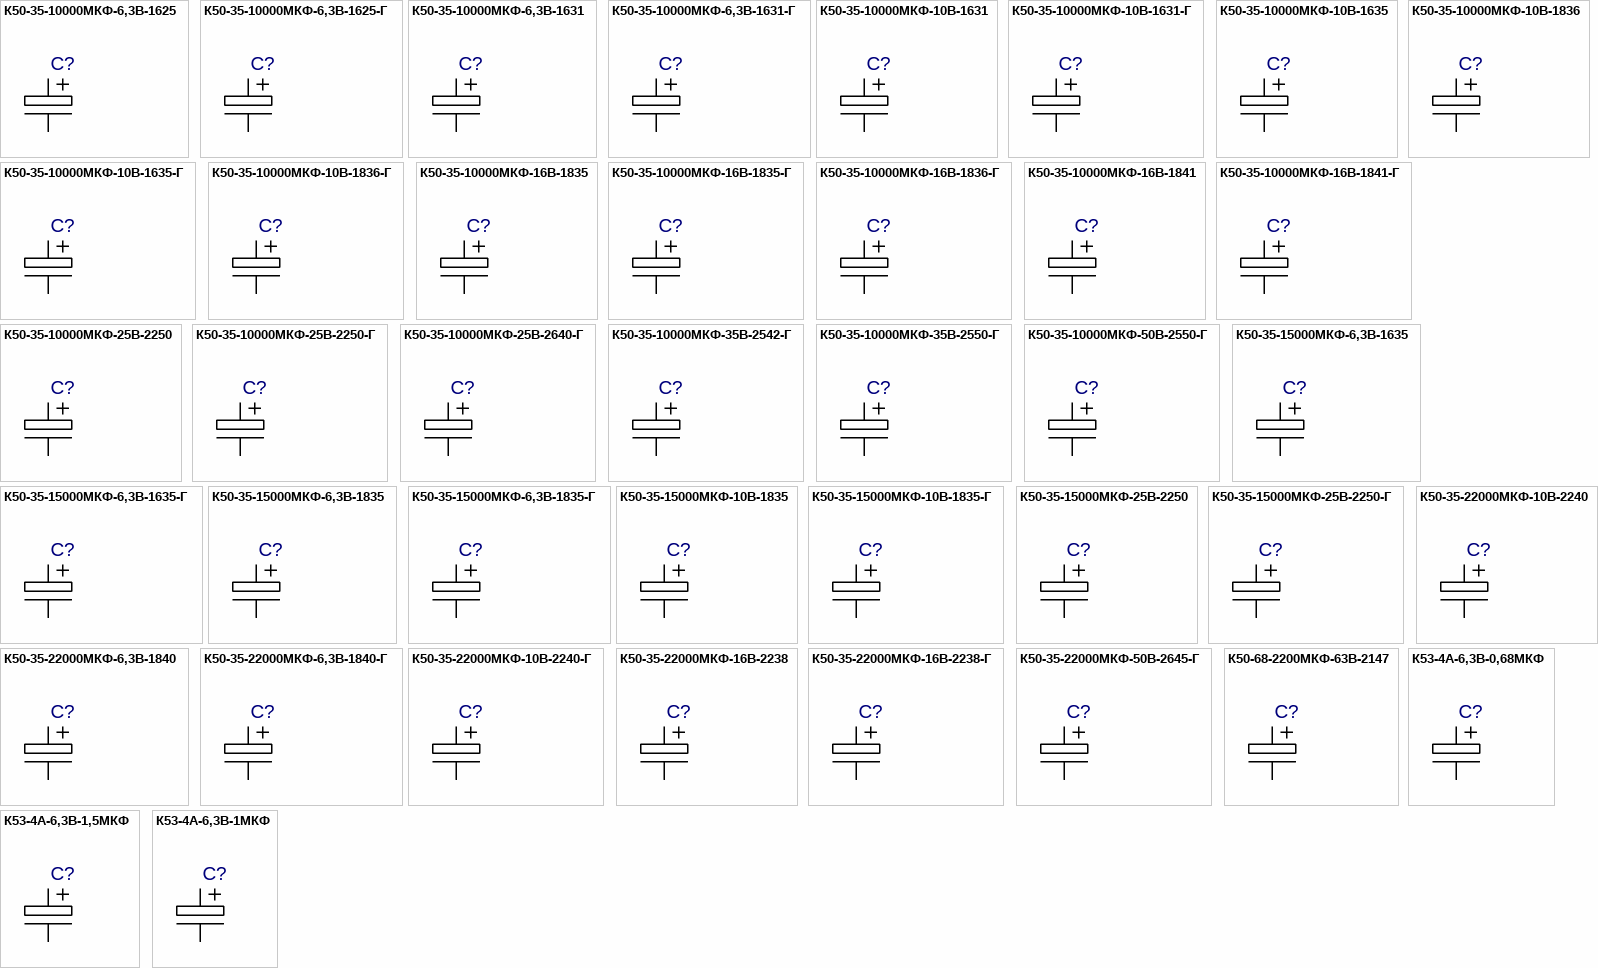
[diagram p36: symbols К50-35-10000МКФ-6,3В-1625 to К53-4А-6,3В-1МКФ]

## К50-35-10000МКФ-6,3В-1625
designator C?  (value not drawn)
Value: *
footprint К50-35-1625_K5035-1R
footprint К50-35-1625_K5035-1R1
footprint К50-35-1625_Primary
pins: 1, 2

## К50-35-10000МКФ-6,3В-1625-Г
designator C?  (value not drawn)
Value: *
footprint К50-35-16XX-Г_K5035-1R
footprint К50-35-16XX-Г_K5035-1R1
footprint К50-35-16XX-Г_Primary
pins: 1, 2

## К50-35-10000МКФ-6,3В-1631
designator C?  (value not drawn)
Value: *
footprint К50-35-1625_K5035-1R
footprint К50-35-1625_K5035-1R1
footprint К50-35-1625_Primary
pins: 1, 2

## К50-35-10000МКФ-6,3В-1631-Г
designator C?  (value not drawn)
Value: *
footprint К50-35-16XX-Г_K5035-1R
footprint К50-35-16XX-Г_K5035-1R1
footprint К50-35-16XX-Г_Primary
pins: 1, 2

## К50-35-10000МКФ-10В-1631
designator C?  (value not drawn)
Value: *
footprint К50-35-1625_K5035-1R
footprint К50-35-1625_K5035-1R1
footprint К50-35-1625_Primary
pins: 1, 2

## К50-35-10000МКФ-10В-1631-Г
designator C?  (value not drawn)
Value: *
footprint К50-35-16XX-Г_K5035-1R
footprint К50-35-16XX-Г_K5035-1R1
footprint К50-35-16XX-Г_Primary
pins: 1, 2

## К50-35-10000МКФ-10В-1635
designator C?  (value not drawn)
Value: *
footprint К50-35-1625_K5035-1R
footprint К50-35-1625_K5035-1R1
footprint К50-35-1625_Primary
pins: 1, 2

## К50-35-10000МКФ-10В-1635-Г
designator C?  (value not drawn)
Value: *
footprint К50-35-16XX-Г_K5035-1R
footprint К50-35-16XX-Г_K5035-1R1
footprint К50-35-16XX-Г_Primary
pins: 1, 2

## К50-35-10000МКФ-10В-1836
designator C?  (value not drawn)
Value: *
footprint К50-35-1835_K5035-1R
footprint К50-35-1835_K5035-1R1
footprint К50-35-1835_Primary
pins: 1, 2

## К50-35-10000МКФ-10В-1836-Г
designator C?  (value not drawn)
Value: *
footprint К50-35-18XX-Г_K5035-1R
footprint К50-35-18XX-Г_K5035-1R1
footprint К50-35-18XX-Г_Primary
pins: 1, 2

## К50-35-10000МКФ-16В-1835
designator C?  (value not drawn)
Value: *
footprint К50-35-1835_K5035-1R
footprint К50-35-1835_K5035-1R1
footprint К50-35-1835_Primary
pins: 1, 2

## К50-35-10000МКФ-16В-1835-Г
designator C?  (value not drawn)
Value: *
footprint К50-35-18XX-Г_K5035-1R
footprint К50-35-18XX-Г_K5035-1R1
footprint К50-35-18XX-Г_Primary
pins: 1, 2

## К50-35-10000МКФ-16В-1836-Г
designator C?  (value not drawn)
Value: *
footprint К50-35-16XX-Г_K5035-1R
footprint К50-35-16XX-Г_K5035-1R1
footprint К50-35-16XX-Г_Primary
pins: 1, 2

## К50-35-10000МКФ-16В-1841
designator C?  (value not drawn)
Value: *
footprint К50-35-1835_K5035-1R
footprint К50-35-1835_K5035-1R1
footprint К50-35-1835_Primary
pins: 1, 2

## К50-35-10000МКФ-16В-1841-Г
designator C?  (value not drawn)
Value: *
footprint К50-35-18XX-Г_K5035-1R
footprint К50-35-18XX-Г_K5035-1R1
footprint К50-35-18XX-Г_Primary
pins: 1, 2

## К50-35-10000МКФ-25В-2250
designator C?  (value not drawn)
Value: *
footprint К50-35-2240_K5035-1R
footprint К50-35-2240_K5035-1R1
footprint К50-35-2240_Primary
pins: 1, 2

## К50-35-10000МКФ-25В-2250-Г
designator C?  (value not drawn)
Value: *
footprint К50-35-22XX-Г_K5035-1R
footprint К50-35-22XX-Г_K5035-1R1
footprint К50-35-22XX-Г_Primary
pins: 1, 2